# Altium schematic symbol library AD9837ACPZ-RL7.SchLib: 1 symbol
Pins are listed as number, name and electrical type; pins without a type are passive.

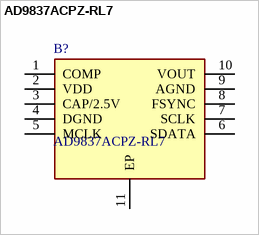
[diagram p0: symbol AD9837ACPZ-RL7]

## AD9837ACPZ-RL7
designator B?
AD9837ACPZ-RL7, Frequency Synthesizer 10 bit-Bit 16Msps, 2.3  5.5 V, 10-pin LFCSP WD; Manufacturer_Name: Analog Devices; Geometry.Height: 0.85mm; Mouser Part Number: 584-AD9837ACPZ-R7; Mouser Price/Stock: https://www.mouser.co.uk/ProductDetail/Analog-Devices/AD9837ACPZ-RL7?qs=BpaRKvA4VqHiK4O%2FrfttgA%3D%3D; Manufacturer_Part_Number: AD9837ACPZ-RL7; Datasheet Link: http://www.analog.com/media/en/technical-documentation/data-sheets/AD9837.PDF
footprint SON50P300X300X85-11N-D
pins: 1 COMP, 2 VDD, 3 CAP/2.5V, 4 DGND, 5 MCLK, 6 SDATA, 7 SCLK, 8 FSYNC, 9 AGND, 10 VOUT, 11 EP